# Altium schematic symbol library CONUFL001-SMD-T.SchLib: 1 symbol
Pins are listed as number, name and electrical type; pins without a type are passive.

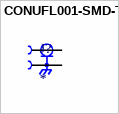
[diagram p0: symbol CONUFL001-SMD-T]

## CONUFL001-SMD-T
designator J?
MP: CONUFL001-SMD-T; Availability: Unavailable; Package: None; Value: *; Price: None
footprint Antenna- CONUFL001-SMD-T
pins: 1, 2, 3 2